# EAGLE library part ADXL362 (library ADXLxxx)
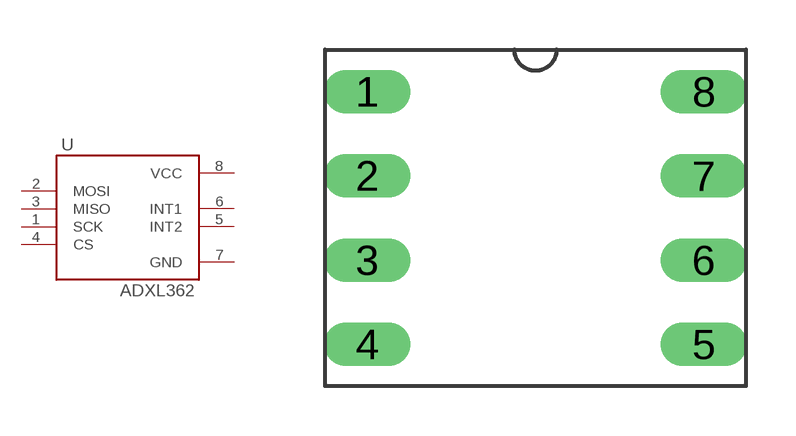
[diagram p1: symbol with the pads of ADXL362; footprint ADXL362]

Designator prefix -

## ADXL362  [ADXL362]
1  SCK
2  MOSI
3  MISO
4  CS
5  INT2
6  INT1
7  GND  pwr
8  VCC  pwr

## Footprint ADXL362 (pad centres in mm)
drill 0.8 long: 1 -5.08,3.81; 2 -5.08,1.27; 3 -5.08,-1.27; 4 -5.08,-3.81; 5 5.08,-3.81; 6 5.08,-1.27; 7 5.08,1.27; 8 5.08,3.81